# Altium integrated library Xilinx Spartan-3A.IntLib: 90 symbols (part 48 of 55)
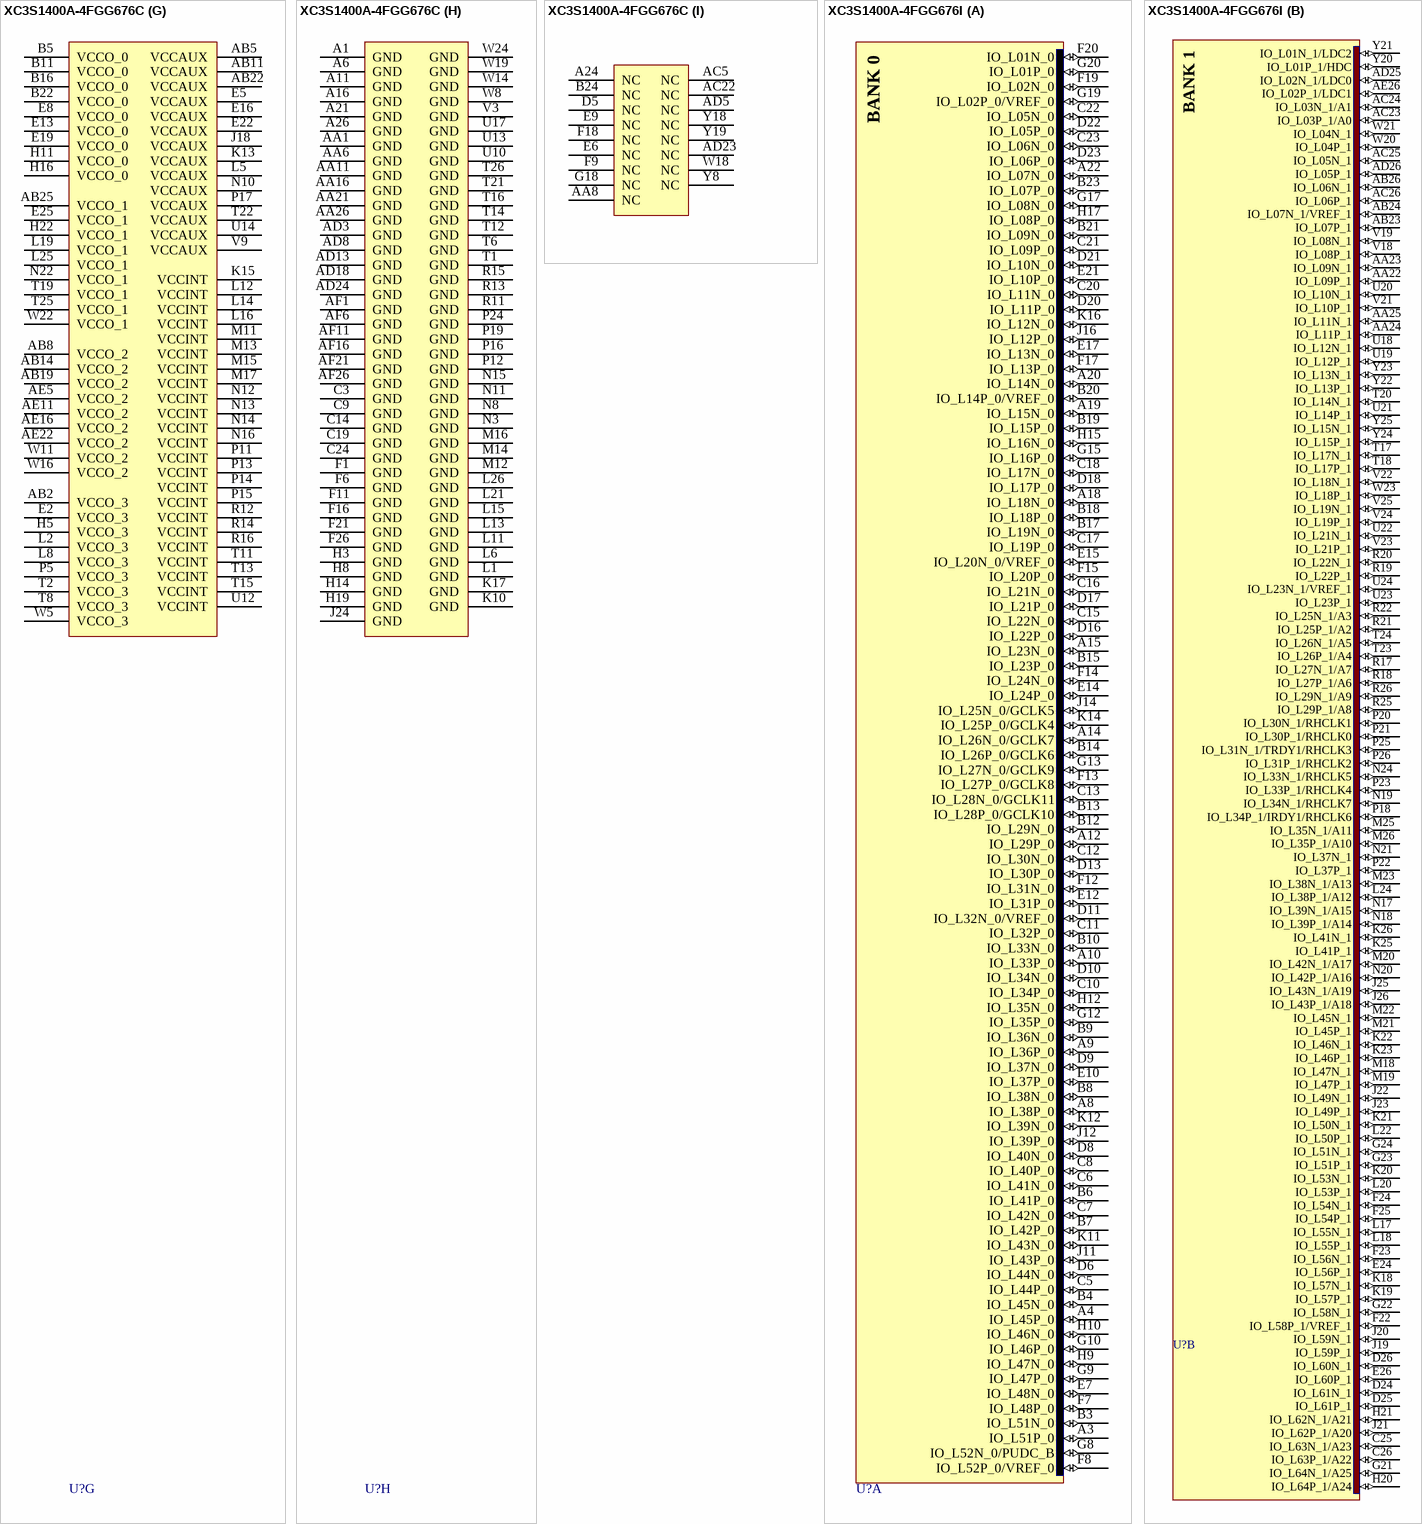
[diagram p143: symbols XC3S1400A-4FGG676C to XC3S1400A-4FGG676I]

## XC3S1400A-4FGG676C
designator U?
Spartan-3A I/O Optimized FPGA, 502 User I/Os, 676-Ball Pb-Free FBGA, Standard Performance, Commercial Grade; Published: 12-Dec-2006; LatestRevisionDate: 24-Apr-2009; LatestRevisionNote: Updated to datasheet version 1.8 March 2009; DatasheetVersion: ver1.8, Mar-2009; PackageVersion: ver1.2.1, Apr-2005; PackageReference: FGG676; Publisher: Altium Limited; PackageDescription: 676-Ball Fine Pitch Ball Grid Array (FGG676) - Pb-Free; Code_JEDEC: MS-034-AAL-1; Code_IPC: BGA100P26X26-676; ComponentLink1Description: Manufacturer Link; ComponentLink1URL: http://www.xilinx.com/products/spartan3a/; ComponentLink2Description: Datasheet; ComponentLink2URL: http://www.xilinx.com/support/documentation/data_sheets/ds529.pdf
footprint FGG676 (BGA, 676-Leads, Body 27x27mm, Pitch 1mm)
3D model XC3S1400A-FG676 (676-Ball Fine Pitch Ball Grid Array (FGG676) - Pb-Free)
signal-integrity model XC3S1400A_FGG676 (Spartan-3A)
part A pins: A3 IO_L51P_0 (io) "Unrestricted, general-purpose user-I/O pin.", A4 IO_L45P_0 (io) "Unrestricted, general-purpose user-I/O pin.", A8 IO_L38P_0 (io) "Unrestricted, general-purpose user-I/O pin.", A9 IO_L36P_0 (io) "Unrestricted, general-purpose user-I/O pin.", A10 IO_L33P_0 (io) "Unrestricted, general-purpose user-I/O pin.", A12 IO_L29P_0 (io) "Unrestricted, general-purpose user-I/O pin.", A14 IO_L26N_0/GCLK7 (io) "Either a user-I/O pin or a global clock input.", A15 IO_L23N_0 (io) "Unrestricted, general-purpose user-I/O pin.", A18 IO_L18N_0 (io) "Unrestricted, general-purpose user-I/O pin.", A19 IO_L15N_0 (io) "Unrestricted, general-purpose user-I/O pin.", A20 IO_L14N_0 (io) "Unrestricted, general-purpose user-I/O pin.", A22 IO_L07N_0 (io) "Unrestricted, general-purpose user-I/O pin.", B3 IO_L51N_0 (io) "Unrestricted, general-purpose user-I/O pin.", B4 IO_L45N_0 (io) "Unrestricted, general-purpose user-I/O pin.", B6 IO_L41P_0 (io) "Unrestricted, general-purpose user-I/O pin.", B7 IO_L42P_0 (io) "Unrestricted, general-purpose user-I/O pin.", B8 IO_L38N_0 (io) "Unrestricted, general-purpose user-I/O pin.", B9 IO_L36N_0 (io) "Unrestricted, general-purpose user-I/O pin.", B10 IO_L33N_0 (io) "Unrestricted, general-purpose user-I/O pin.", B12 IO_L29N_0 (io) "Unrestricted, general-purpose user-I/O pin.", B13 IO_L28P_0/GCLK10 (io) "Either a user-I/O pin or a global clock input.", B14 IO_L26P_0/GCLK6 (io) "Either a user-I/O pin or a global clock input.", B15 IO_L23P_0 (io) "Unrestricted, general-purpose user-I/O pin.", B17 IO_L19N_0 (io) "Unrestricted, general-purpose user-I/O pin.", B18 IO_L18P_0 (io) "Unrestricted, general-purpose user-I/O pin.", B19 IO_L15P_0 (io) "Unrestricted, general-purpose user-I/O pin.", B20 IO_L14P_0/VREF_0 (io) "Dual-purpose pin that is either a user-I/O pin or provides a reference voltage input.", B21 IO_L09N_0 (io) "Unrestricted, general-purpose user-I/O pin.", B23 IO_L07P_0 (io) "Unrestricted, general-purpose user-I/O pin.", C5 IO_L44P_0 (io) "Unrestricted, general-purpose user-I/O pin.", C6 IO_L41N_0 (io) "Unrestricted, general-purpose user-I/O pin.", C7 IO_L42N_0 (io) "Unrestricted, general-purpose user-I/O pin.", C8 IO_L40P_0 (io) "Unrestricted, general-purpose user-I/O pin.", C10 IO_L34P_0 (io) "Unrestricted, general-purpose user-I/O pin.", C11 IO_L32P_0 (io) "Unrestricted, general-purpose user-I/O pin.", C12 IO_L30N_0 (io) "Unrestricted, general-purpose user-I/O pin.", C13 IO_L28N_0/GCLK11 (io) "Either a user-I/O pin or a global clock input.", C15 IO_L22N_0 (io) "Unrestricted, general-purpose user-I/O pin.", C16 IO_L21N_0 (io) "Unrestricted, general-purpose user-I/O pin.", C17 IO_L19P_0 (io) "Unrestricted, general-purpose user-I/O pin.", C18 IO_L17N_0 (io) "Unrestricted, general-purpose user-I/O pin.", C20 IO_L11N_0 (io) "Unrestricted, general-purpose user-I/O pin.", C21 IO_L09P_0 (io) "Unrestricted, general-purpose user-I/O pin.", C22 IO_L05N_0 (io) "Unrestricted, general-purpose user-I/O pin.", C23 IO_L06N_0 (io) "Unrestricted, general-purpose user-I/O pin.", D6 IO_L44N_0 (io) "Unrestricted, general-purpose user-I/O pin.", D8 IO_L40N_0 (io) "Unrestricted, general-purpose user-I/O pin.", D9 IO_L37N_0 (io) "Unrestricted, general-purpose user-I/O pin.", D10 IO_L34N_0 (io) "Unrestricted, general-purpose user-I/O pin.", D11 IO_L32N_0/VREF_0 (io) "Dual-purpose pin that is either a user-I/O pin or provides a reference voltage input.", D13 IO_L30P_0 (io) "Unrestricted, general-purpose user-I/O pin.", D16 IO_L22P_0 (io) "Unrestricted, general-purpose user-I/O pin.", D17 IO_L21P_0 (io) "Unrestricted, general-purpose user-I/O pin.", D18 IO_L17P_0 (io) "Unrestricted, general-purpose user-I/O pin.", D20 IO_L11P_0 (io) "Unrestricted, general-purpose user-I/O pin.", D21 IO_L10N_0 (io) "Unrestricted, general-purpose user-I/O pin.", D22 IO_L05P_0 (io) "Unrestricted, general-purpose user-I/O pin.", D23 IO_L06P_0 (io) "Unrestricted, general-purpose user-I/O pin.", E7 IO_L48N_0 (io) "Unrestricted, general-purpose user-I/O pin.", E10 IO_L37P_0 (io) "Unrestricted, general-purpose user-I/O pin.", E12 IO_L31P_0 (io) "Unrestricted, general-purpose user-I/O pin.", E14 IO_L24P_0 (io) "Unrestricted, general-purpose user-I/O pin.", E15 IO_L20N_0/VREF_0 (io) "Dual-purpose pin that is either a user-I/O pin or provides a reference voltage input.", E17 IO_L13N_0 (io) "Unrestricted, general-purpose user-I/O pin.", E21 IO_L10P_0 (io) "Unrestricted, general-purpose user-I/O pin.", F7 IO_L48P_0 (io) "Unrestricted, general-purpose user-I/O pin.", F8 IO_L52P_0/VREF_0 (io) "Dual-purpose pin that is either a user-I/O pin or provides a reference voltage input.", F12 IO_L31N_0 (io) "Unrestricted, general-purpose user-I/O pin.", F13 IO_L27P_0/GCLK8 (io) "Either a user-I/O pin or a global clock input.", F14 IO_L24N_0 (io) "Unrestricted, general-purpose user-I/O pin.", F15 IO_L20P_0 (io) "Unrestricted, general-purpose user-I/O pin.", F17 IO_L13P_0 (io) "Unrestricted, general-purpose user-I/O pin.", F19 IO_L02N_0 (io) "Unrestricted, general-purpose user-I/O pin.", F20 IO_L01N_0 (io) "Unrestricted, general-purpose user-I/O pin.", G8 IO_L52N_0/PUDC_B (io) "Dual-purpose pin used in some configuration modes, and then usually available as a user-I/O.", G9 IO_L47P_0 (io) "Unrestricted, general-purpose user-I/O pin.", G10 IO_L46P_0 (io) "Unrestricted, general-purpose user-I/O pin.", G12 IO_L35P_0 (io) "Unrestricted, general-purpose user-I/O pin.", G13 IO_L27N_0/GCLK9 (io) "Either a user-I/O pin or a global clock input.", G15 IO_L16P_0 (io) "Unrestricted, general-purpose user-I/O pin.", G17 IO_L08N_0 (io) "Unrestricted, general-purpose user-I/O pin.", G19 IO_L02P_0/VREF_0 (io) "Dual-purpose pin that is either a user-I/O pin or provides a reference voltage input.", G20 IO_L01P_0 (io) "Unrestricted, general-purpose user-I/O pin.", H9 IO_L47N_0 (io) "Unrestricted, general-purpose user-I/O pin.", H10 IO_L46N_0 (io) "Unrestricted, general-purpose user-I/O pin.", H12 IO_L35N_0 (io) "Unrestricted, general-purpose user-I/O pin.", H15 IO_L16N_0 (io) "Unrestricted, general-purpose user-I/O pin.", H17 IO_L08P_0 (io) "Unrestricted, general-purpose user-I/O pin.", J11 IO_L43P_0 (io) "Unrestricted, general-purpose user-I/O pin.", J12 IO_L39P_0 (io) "Unrestricted, general-purpose user-I/O pin.", J14 IO_L25N_0/GCLK5 (io) "Either a user-I/O pin or a global clock input.", J16 IO_L12P_0 (io) "Unrestricted, general-purpose user-I/O pin.", K11 IO_L43N_0 (io) "Unrestricted, general-purpose user-I/O pin.", K12 IO_L39N_0 (io) "Unrestricted, general-purpose user-I/O pin.", K14 IO_L25P_0/GCLK4 (io) "Either a user-I/O pin or a global clock input.", K16 IO_L12N_0 (io) "Unrestricted, general-purpose user-I/O pin."
part B pins: AA22 IO_L09P_1 (io) "Unrestricted, general-purpose user-I/O pin.", AA23 IO_L09N_1 (io) "Unrestricted, general-purpose user-I/O pin.", AA24 IO_L11P_1 (io) "Unrestricted, general-purpose user-I/O pin.", AA25 IO_L11N_1 (io) "Unrestricted, general-purpose user-I/O pin.", AB23 IO_L07P_1 (io) "Unrestricted, general-purpose user-I/O pin.", AB24 IO_L07N_1/VREF_1 (io) "Dual-purpose pin that is either a user-I/O pin or provides a reference voltage input.", AB26 IO_L06N_1 (io) "Unrestricted, general-purpose user-I/O pin.", AC23 IO_L03P_1/A0 (io) "Dual-purpose pin used in some configuration modes, and then usually available as a user-I/O.", AC24 IO_L03N_1/A1 (io) "Dual-purpose pin used in some configuration modes, and then usually available as a user-I/O.", AC25 IO_L05N_1 (io) "Unrestricted, general-purpose user-I/O pin.", AC26 IO_L06P_1 (io) "Unrestricted, general-purpose user-I/O pin.", AD25 IO_L02N_1/LDC0 (io) "Dual-purpose pin used in some configuration modes, and then usually available as a user-I/O.", AD26 IO_L05P_1 (io) "Unrestricted, general-purpose user-I/O pin.", AE26 IO_L02P_1/LDC1 (io) "Dual-purpose pin used in some configuration modes, and then usually available as a user-I/O.", C25 IO_L63N_1/A23 (io) "Dual-purpose pin used in some configuration modes, and then usually available as a user-I/O.", C26 IO_L63P_1/A22 (io) "Dual-purpose pin used in some configuration modes, and then usually available as a user-I/O.", D24 IO_L61N_1 (io) "Unrestricted, general-purpose user-I/O pin.", D25 IO_L61P_1 (io) "Unrestricted, general-purpose user-I/O pin.", D26 IO_L60N_1 (io) "Unrestricted, general-purpose user-I/O pin.", E24 IO_L56P_1 (io) "Unrestricted, general-purpose user-I/O pin.", E26 IO_L60P_1 (io) "Unrestricted, general-purpose user-I/O pin.", F22 IO_L58P_1/VREF_1 (io) "Dual-purpose pin that is either a user-I/O pin or provides a reference voltage input.", F23 IO_L56N_1 (io) "Unrestricted, general-purpose user-I/O pin.", F24 IO_L54N_1 (io) "Unrestricted, general-purpose user-I/O pin.", F25 IO_L54P_1 (io) "Unrestricted, general-purpose user-I/O pin.", G21 IO_L64N_1/A25 (io) "Dual-purpose pin used in some configuration modes, and then usually available as a user-I/O.", G22 IO_L58N_1 (io) "Unrestricted, general-purpose user-I/O pin.", G23 IO_L51P_1 (io) "Unrestricted, general-purpose user-I/O pin.", G24 IO_L51N_1 (io) "Unrestricted, general-purpose user-I/O pin.", H20 IO_L64P_1/A24 (io) "Dual-purpose pin used in some configuration modes, and then usually available as a user-I/O.", H21 IO_L62N_1/A21 (io) "Dual-purpose pin used in some configuration modes, and then usually available as a user-I/O.", J19 IO_L59P_1 (io) "Unrestricted, general-purpose user-I/O pin.", J20 IO_L59N_1 (io) "Unrestricted, general-purpose user-I/O pin.", J21 IO_L62P_1/A20 (io) "Dual-purpose pin used in some configuration modes, and then usually available as a user-I/O.", J22 IO_L49N_1 (io) "Unrestricted, general-purpose user-I/O pin.", J23 IO_L49P_1 (io) "Unrestricted, general-purpose user-I/O pin.", J25 IO_L43N_1/A19 (io) "Dual-purpose pin used in some configuration modes, and then usually available as a user-I/O.", J26 IO_L43P_1/A18 (io) "Dual-purpose pin used in some configuration modes, and then usually available as a user-I/O.", K18 IO_L57N_1 (io) "Unrestricted, general-purpose user-I/O pin.", K19 IO_L57P_1 (io) "Unrestricted, general-purpose user-I/O pin.", K20 IO_L53N_1 (io) "Unrestricted, general-purpose user-I/O pin.", K21 IO_L50N_1 (io) "Unrestricted, general-purpose user-I/O pin.", K22 IO_L46N_1 (io) "Unrestricted, general-purpose user-I/O pin.", K23 IO_L46P_1 (io) "Unrestricted, general-purpose user-I/O pin.", K25 IO_L41P_1 (io) "Unrestricted, general-purpose user-I/O pin.", K26 IO_L41N_1 (io) "Unrestricted, general-purpose user-I/O pin.", L17 IO_L55N_1 (io) "Unrestricted, general-purpose user-I/O pin.", L18 IO_L55P_1 (io) "Unrestricted, general-purpose user-I/O pin.", L20 IO_L53P_1 (io) "Unrestricted, general-purpose user-I/O pin.", L22 IO_L50P_1 (io) "Unrestricted, general-purpose user-I/O pin.", L24 IO_L38P_1/A12 (io) "Dual-purpose pin used in some configuration modes, and then usually available as a user-I/O.", M18 IO_L47N_1 (io) "Unrestricted, general-purpose user-I/O pin.", M19 IO_L47P_1 (io) "Unrestricted, general-purpose user-I/O pin.", M20 IO_L42N_1/A17 (io) "Dual-purpose pin used in some configuration modes, and then usually available as a user-I/O.", M21 IO_L45P_1 (io) "Unrestricted, general-purpose user-I/O pin.", M22 IO_L45N_1 (io) "Unrestricted, general-purpose user-I/O pin.", M23 IO_L38N_1/A13 (io) "Dual-purpose pin used in some configuration modes, and then usually available as a user-I/O.", M25 IO_L35N_1/A11 (io) "Dual-purpose pin used in some configuration modes, and then usually available as a user-I/O.", M26 IO_L35P_1/A10 (io) "Dual-purpose pin used in some configuration modes, and then usually available as a user-I/O.", N17 IO_L39N_1/A15 (io) "Dual-purpose pin used in some configuration modes, and then usually available as a user-I/O.", N18 IO_L39P_1/A14 (io) "Dual-purpose pin used in some configuration modes, and then usually available as a user-I/O.", N19 IO_L34N_1/RHCLK7 (io) "Either a user-I/O pin or a global clock input for right half of device.", N20 IO_L42P_1/A16 (io) "Dual-purpose pin used in some configuration modes, and then usually available as a user-I/O.", N21 IO_L37N_1 (io) "Unrestricted, general-purpose user-I/O pin.", N24 IO_L33N_1/RHCLK5 (io) "Either a user-I/O pin or a global clock input for right half of device.", P18 IO_L34P_1/IRDY1/RHCLK6 (io) "Either a user-I/O pin or a global clock input for right half of device.", P20 IO_L30N_1/RHCLK1 (io) "Either a user-I/O pin or a global clock input for right half of device.", P21 IO_L30P_1/RHCLK0 (io) "Either a user-I/O pin or a global clock input for right half of device.", P22 IO_L37P_1 (io) "Unrestricted, general-purpose user-I/O pin.", P23 IO_L33P_1/RHCLK4 (io) "Either a user-I/O pin or a global clock input for right half of device.", P25 IO_L31N_1/TRDY1/RHCLK3 (io) "Either a user-I/O pin or a global clock input for right half of device.", P26 IO_L31P_1/RHCLK2 (io) "Either a user-I/O pin or a global clock input for right half of device.", R17 IO_L27N_1/A7 (io) "Dual-purpose pin used in some configuration modes, and then usually available as a user-I/O.", R18 IO_L27P_1/A6 (io) "Dual-purpose pin used in some configuration modes, and then usually available as a user-I/O.", R19 IO_L22P_1 (io) "Unrestricted, general-purpose user-I/O pin.", R20 IO_L22N_1 (io) "Unrestricted, general-purpose user-I/O pin.", R21 IO_L25P_1/A2 (io) "Dual-purpose pin used in some configuration modes, and then usually available as a user-I/O.", R22 IO_L25N_1/A3 (io) "Dual-purpose pin used in some configuration modes, and then usually available as a user-I/O.", R25 IO_L29P_1/A8 (io) "Dual-purpose pin used in some configuration modes, and then usually available as a user-I/O.", R26 IO_L29N_1/A9 (io) "Dual-purpose pin used in some configuration modes, and then usually available as a user-I/O.", T17 IO_L17N_1 (io) "Unrestricted, general-purpose user-I/O pin.", T18 IO_L17P_1 (io) "Unrestricted, general-purpose user-I/O pin.", T20 IO_L14N_1 (io) "Unrestricted, general-purpose user-I/O pin.", T23 IO_L26P_1/A4 (io) "Dual-purpose pin used in some configuration modes, and then usually available as a user-I/O.", T24 IO_L26N_1/A5 (io) "Dual-purpose pin used in some configuration modes, and then usually available as a user-I/O.", U18 IO_L12N_1 (io) "Unrestricted, general-purpose user-I/O pin.", U19 IO_L12P_1 (io) "Unrestricted, general-purpose user-I/O pin.", U20 IO_L10N_1 (io) "Unrestricted, general-purpose user-I/O pin.", U21 IO_L14P_1 (io) "Unrestricted, general-purpose user-I/O pin.", U22 IO_L21N_1 (io) "Unrestricted, general-purpose user-I/O pin.", U23 IO_L23P_1 (io) "Unrestricted, general-purpose user-I/O pin.", U24 IO_L23N_1/VREF_1 (io) "Dual-purpose pin that is either a user-I/O pin or provides a reference voltage input.", V18 IO_L08P_1 (io) "Unrestricted, general-purpose user-I/O pin.", V19 IO_L08N_1 (io) "Unrestricted, general-purpose user-I/O pin.", V21 IO_L10P_1 (io) "Unrestricted, general-purpose user-I/O pin.", V22 IO_L18N_1 (io) "Unrestricted, general-purpose user-I/O pin.", V23 IO_L21P_1 (io) "Unrestricted, general-purpose user-I/O pin.", V24 IO_L19P_1 (io) "Unrestricted, general-purpose user-I/O pin.", V25 IO_L19N_1 (io) "Unrestricted, general-purpose user-I/O pin.", W20 IO_L04P_1 (io) "Unrestricted, general-purpose user-I/O pin.", W21 IO_L04N_1 (io) "Unrestricted, general-purpose user-I/O pin.", W23 IO_L18P_1 (io) "Unrestricted, general-purpose user-I/O pin.", Y20 IO_L01P_1/HDC (io) "Dual-purpose pin used in some configuration modes, and then usually available as a user-I/O.", Y21 IO_L01N_1/LDC2 (io) "Dual-purpose pin used in some configuration modes, and then usually available as a user-I/O.", Y22 IO_L13P_1 (io) "Unrestricted, general-purpose user-I/O pin.", Y23 IO_L13N_1 (io) "Unrestricted, general-purpose user-I/O pin.", Y24 IO_L15P_1 (io) "Unrestricted, general-purpose user-I/O pin.", Y25 IO_L15N_1 (io) "Unrestricted, general-purpose user-I/O pin."
part C pins: AA7 IO_L02N_2/CSO_B (io) "Dual-purpose pin used in some configuration modes, and then usually available as a user-I/O.", AA10 IO_L12N_2 (io) "Unrestricted, general-purpose user-I/O pin.", AA12 IO_L17N_2/VS2 (io) "Dual-purpose pin used in some configuration modes, and then usually available as a user-I/O.", AA13 IO_L25P_2/GCLK12 (io) "Either a user-I/O pin or a global clock input.", AA14 IO_L27N_2/GCLK1 (io) "Either a user-I/O pin or a global clock input.", AA15 IO_L34P_2/INIT_B (io) "Dual-purpose pin used in some configuration modes, and then usually available as a user-I/O.", AA17 IO_L43P_2 (io) "Unrestricted, general-purpose user-I/O pin.", AA18 IO_L47N_2 (io) "Unrestricted, general-purpose user-I/O pin.", AB7 IO_L14N_2 (io) "Unrestricted, general-purpose user-I/O pin.", AB9 IO_L15P_2 (io) "Unrestricted, general-purpose user-I/O pin.", AB12 IO_L21P_2 (io) "Unrestricted, general-purpose user-I/O pin.", AB15 IO_L30N_2/MOSI/CSI_B (io) "Dual-purpose pin used in some configuration modes, and then usually available as a user-I/O.", AB16 IO_L38N_2 (io) "Unrestricted, general-purpose user-I/O pin.", AB18 IO_L47P_2 (io) "Unrestricted, general-purpose user-I/O pin.", AC4 IO_L01P_2/M1 (io) "Dual-purpose pin used in some configuration modes, and then usually available as a user-I/O.", AC6 IO_L08P_2 (io) "Unrestricted, general-purpose user-I/O pin.", AC8 IO_L14P_2 (io) "Unrestricted, general-purpose user-I/O pin.", AC9 IO_L15N_2 (io) "Unrestricted, general-purpose user-I/O pin.", AC11 IO_L23N_2 (io) "Unrestricted, general-purpose user-I/O pin.", AC12 IO_L21N_2 (io) "Unrestricted, general-purpose user-I/O pin.", AC14 IO_L29N_2 (io) "Unrestricted, general-purpose user-I/O pin.", AC15 IO_L30P_2 (io) "Unrestricted, general-purpose user-I/O pin.", AC16 IO_L38P_2 (io) "Unrestricted, general-purpose user-I/O pin.", AC19 IO_L40N_2 (io) "Unrestricted, general-purpose user-I/O pin.", AC20 IO_L41N_2 (io) "Unrestricted, general-purpose user-I/O pin.", AC21 IO_L45N_2 (io) "Unrestricted, general-purpose user-I/O pin.", AD4 IO_L01N_2/M0 (io) "Dual-purpose pin used in some configuration modes, and then usually available as a user-I/O.", AD6 IO_L08N_2 (io) "Unrestricted, general-purpose user-I/O pin.", AD7 IO_L11P_2 (io) "Unrestricted, general-purpose user-I/O pin.", AD11 IO_L23P_2 (io) "Unrestricted, general-purpose user-I/O pin.", AD14 IO_L29P_2 (io) "Unrestricted, general-purpose user-I/O pin.", AD15 IO_L32P_2/AWAKE (io) "Dual-Purpose pin. Used for the power-saving Suspend mode and user-I/O.", AD17 IO_L33N_2 (io) "Unrestricted, general-purpose user-I/O pin.", AD19 IO_L40P_2 (io) "Unrestricted, general-purpose user-I/O pin.", AD20 IO_L41P_2 (io) "Unrestricted, general-purpose user-I/O pin.", AD21 IO_L44N_2 (io) "Unrestricted, general-purpose user-I/O pin.", AD22 IO_L45P_2 (io) "Unrestricted, general-purpose user-I/O pin.", AE3 IO_L06P_2 (io) "Unrestricted, general-purpose user-I/O pin.", AE4 IO_L07P_2 (io) "Unrestricted, general-purpose user-I/O pin.", AE6 IO_L10N_2 (io) "Unrestricted, general-purpose user-I/O pin.", AE7 IO_L11N_2 (io) "Unrestricted, general-purpose user-I/O pin.", AE8 IO_L18P_2 (io) "Unrestricted, general-purpose user-I/O pin.", AE9 IO_L19P_2/VS1 (io) "Dual-purpose pin used in some configuration modes, and then usually available as a user-I/O.", AE10 IO_L22P_2/D7 (io) "Dual-purpose pin used in some configuration modes, and then usually available as a user-I/O.", AE12 IO_L24N_2/D4 (io) "Dual-purpose pin used in some configuration modes, and then usually available as a user-I/O.", AE13 IO_L26N_2/GCLK15 (io) "Either a user-I/O pin or a global clock input.", AE14 IO_L28N_2/GCLK3 (io) "Either a user-I/O pin or a global clock input.", AE15 IO_L32N_2/DOUT (io) "Dual-purpose pin used in some configuration modes, and then usually available as a user-I/O.", AE17 IO_L33P_2 (io) "Unrestricted, general-purpose user-I/O pin.", AE18 IO_L36N_2/D1 (io) "Dual-purpose pin used in some configuration modes, and then usually available as a user-I/O.", AE19 IO_L37N_2 (io) "Unrestricted, general-purpose user-I/O pin.", AE20 IO_L39N_2 (io) "Unrestricted, general-purpose user-I/O pin.", AE21 IO_L44P_2 (io) "Unrestricted, general-purpose user-I/O pin.", AE23 IO_L48N_2 (io) "Unrestricted, general-purpose user-I/O pin.", AE24 IO_L52N_2/CCLK (io) "Dual-purpose pin used in some configuration modes, and then usually available as a user-I/O.", AE25 IO_L51N_2 (io) "Unrestricted, general-purpose user-I/O pin.", AF3 IO_L06N_2 (io) "Unrestricted, general-purpose user-I/O pin.", AF4 IO_L07N_2 (io) "Unrestricted, general-purpose user-I/O pin.", AF5 IO_L10P_2 (io) "Unrestricted, general-purpose user-I/O pin.", AF8 IO_L18N_2 (io) "Unrestricted, general-purpose user-I/O pin.", AF9 IO_L19N_2/VS0 (io) "Dual-purpose pin used in some configuration modes, and then usually available as a user-I/O.", AF10 IO_L22N_2/D6 (io) "Dual-purpose pin used in some configuration modes, and then usually available as a user-I/O.", AF12 IO_L24P_2/D5 (io) "Dual-purpose pin used in some configuration modes, and then usually available as a user-I/O.", AF13 IO_L26P_2/GCLK14 (io) "Either a user-I/O pin or a global clock input.", AF14 IO_L28P_2/GCLK2 (io) "Either a user-I/O pin or a global clock input.", AF18 IO_L36P_2/D2 (io) "Dual-purpose pin used in some configuration modes, and then usually available as a user-I/O.", AF19 IO_L37P_2 (io) "Unrestricted, general-purpose user-I/O pin.", AF20 IO_L39P_2 (io) "Unrestricted, general-purpose user-I/O pin.", AF23 IO_L48P_2 (io) "Unrestricted, general-purpose user-I/O pin.", AF24 IO_L52P_2/D0/DIN/MISO (io) "Dual-purpose pin used in some configuration modes, and then usually available as a user-I/O.", AF25 IO_L51P_2 (io) "Unrestricted, general-purpose user-I/O pin.", U11 IO_L13N_2 (io) "Unrestricted, general-purpose user-I/O pin.", U15 IO_L35N_2 (io) "Unrestricted, general-purpose user-I/O pin.", U16 IO_L42N_2 (io) "Unrestricted, general-purpose user-I/O pin.", V10 IO_L09P_2 (io) "Unrestricted, general-purpose user-I/O pin.", V11 IO_L13P_2 (io) "Unrestricted, general-purpose user-I/O pin.", V12 IO_L16P_2 (io) "Unrestricted, general-purpose user-I/O pin.", V13 IO_L20P_2 (io) "Unrestricted, general-purpose user-I/O pin.", V14 IO_L31P_2 (io) "Unrestricted, general-purpose user-I/O pin.", V15 IO_L35P_2 (io) "Unrestricted, general-purpose user-I/O pin.", V16 IO_L42P_2 (io) "Unrestricted, general-purpose user-I/O pin.", V17 IO_L46N_2 (io) "Unrestricted, general-purpose user-I/O pin.", W9 IO_L05P_2 (io) "Unrestricted, general-purpose user-I/O pin.", W10 IO_L09N_2 (io) "Unrestricted, general-purpose user-I/O pin.", W12 IO_L16N_2 (io) "Unrestricted, general-purpose user-I/O pin.", W13 IO_L20N_2 (io) "Unrestricted, general-purpose user-I/O pin.", W15 IO_L31N_2 (io) "Unrestricted, general-purpose user-I/O pin.", W17 IO_L46P_2 (io) "Unrestricted, general-purpose user-I/O pin.", Y7 IO_L02P_2/M2 (io) "Dual-purpose pin used in some configuration modes, and then usually available as a user-I/O.", Y9 IO_L05N_2 (io) "Unrestricted, general-purpose user-I/O pin.", Y10 IO_L12P_2 (io) "Unrestricted, general-purpose user-I/O pin.", Y12 IO_L17P_2/RDWR_B (io) "Dual-purpose pin used in some configuration modes, and then usually available as a user-I/O.", Y13 IO_L25N_2/GCLK13 (io) "Either a user-I/O pin or a global clock input.", Y14 IO_L27P_2/GCLK0 (io) "Either a user-I/O pin or a global clock input.", Y15 IO_L34N_2/D3 (io) "Dual-purpose pin used in some configuration modes, and then usually available as a user-I/O.", Y17 IO_L43N_2 (io) "Unrestricted, general-purpose user-I/O pin."
part D pins: AA2 IO_L55P_3 (io) "Unrestricted, general-purpose user-I/O pin.", AA3 IO_L55N_3 (io) "Unrestricted, general-purpose user-I/O pin.", AB1 IO_L60P_3 (io) "Unrestricted, general-purpose user-I/O pin.", AC1 IO_L60N_3 (io) "Unrestricted, general-purpose user-I/O pin.", AC2 IO_L64P_3 (io) "Unrestricted, general-purpose user-I/O pin.", AC3 IO_L64N_3 (io) "Unrestricted, general-purpose user-I/O pin.", AD1 IO_L65P_3 (io) "Unrestricted, general-purpose user-I/O pin.", AD2 IO_L65N_3 (io) "Unrestricted, general-purpose user-I/O pin.", B1 IO_L02N_3 (io) "Unrestricted, general-purpose user-I/O pin.", B2 IO_L02P_3 (io) "Unrestricted, general-purpose user-I/O pin.", D3 IO_L06P_3 (io) "Unrestricted, general-purpose user-I/O pin.", E1 IO_L11P_3 (io) "Unrestricted, general-purpose user-I/O pin.", E3 IO_L07P_3 (io) "Unrestricted, general-purpose user-I/O pin.", E4 IO_L06N_3 (io) "Unrestricted, general-purpose user-I/O pin.", F2 IO_L11N_3 (io) "Unrestricted, general-purpose user-I/O pin.", F3 IO_L14N_3 (io) "Unrestricted, general-purpose user-I/O pin.", F4 IO_L07N_3 (io) "Unrestricted, general-purpose user-I/O pin.", F5 IO_L09P_3 (io) "Unrestricted, general-purpose user-I/O pin.", G3 IO_L14P_3 (io) "Unrestricted, general-purpose user-I/O pin.", G4 IO_L09N_3 (io) "Unrestricted, general-purpose user-I/O pin.", G6 IO_L03P_3 (io) "Unrestricted, general-purpose user-I/O pin.", H1 IO_L17N_3 (io) "Unrestricted, general-purpose user-I/O pin.", H2 IO_L17P_3 (io) "Unrestricted, general-purpose user-I/O pin.", H6 IO_L10N_3 (io) "Unrestricted, general-purpose user-I/O pin.", H7 IO_L03N_3 (io) "Unrestricted, general-purpose user-I/O pin.", J4 IO_L19N_3 (io) "Unrestricted, general-purpose user-I/O pin.", J5 IO_L19P_3 (io) "Unrestricted, general-purpose user-I/O pin.", J6 IO_L13N_3 (io) "Unrestricted, general-purpose user-I/O pin.", J7 IO_L10P_3 (io) "Unrestricted, general-purpose user-I/O pin.", J8 IO_L01P_3 (io) "Unrestricted, general-purpose user-I/O pin.", J9 IO_L01N_3 (io) "Unrestricted, general-purpose user-I/O pin.", K2 IO_L23N_3 (io) "Unrestricted, general-purpose user-I/O pin.", K3 IO_L23P_3 (io) "Unrestricted, general-purpose user-I/O pin.", K4 IO_L22N_3 (io) "Unrestricted, general-purpose user-I/O pin.", K5 IO_L22P_3 (io) "Unrestricted, general-purpose user-I/O pin.", K6 IO_L18P_3 (io) "Unrestricted, general-purpose user-I/O pin.", K7 IO_L13P_3 (io) "Unrestricted, general-purpose user-I/O pin.", K8 IO_L05N_3 (io) "Unrestricted, general-purpose user-I/O pin.", K9 IO_L05P_3 (io) "Unrestricted, general-purpose user-I/O pin.", L3 IO_L25N_3 (io) "Unrestricted, general-purpose user-I/O pin.", L4 IO_L25P_3 (io) "Unrestricted, general-purpose user-I/O pin.", L7 IO_L18N_3 (io) "Unrestricted, general-purpose user-I/O pin.", L9 IO_L15N_3 (io) "Unrestricted, general-purpose user-I/O pin.", L10 IO_L15P_3 (io) "Unrestricted, general-purpose user-I/O pin.", M1 IO_L29N_3/VREF_3 (io) "Dual-purpose pin that is either a user-I/O pin or provides a reference voltage input.", M2 IO_L29P_3 (io) "Unrestricted, general-purpose user-I/O pin.", M3 IO_L27N_3 (io) "Unrestricted, general-purpose user-I/O pin.", M4 IO_L27P_3 (io) "Unrestricted, general-purpose user-I/O pin.", M5 IO_L28P_3 (io) "Unrestricted, general-purpose user-I/O pin.", M6 IO_L28N_3 (io) "Unrestricted, general-purpose user-I/O pin.", M7 IO_L26N_3 (io) "Unrestricted, general-purpose user-I/O pin.", M8 IO_L26P_3 (io) "Unrestricted, general-purpose user-I/O pin.", M9 IO_L21N_3 (io) "Unrestricted, general-purpose user-I/O pin.", M10 IO_L21P_3 (io) "Unrestricted, general-purpose user-I/O pin.", N1 IO_L31P_3 (io) "Unrestricted, general-purpose user-I/O pin.", N2 IO_L31N_3 (io) "Unrestricted, general-purpose user-I/O pin.", N4 IO_L30N_3 (io) "Unrestricted, general-purpose user-I/O pin.", N5 IO_L30P_3 (io) "Unrestricted, general-purpose user-I/O pin.", N6 IO_L32P_3/LHCLK0 (io) "Either a user-I/O pin or a global clock input for left half of device.", N7 IO_L32N_3/LHCLK1 (io) "Either a user-I/O pin or a global clock input for left half of device.", N9 IO_L35P_3/TRDY2/LHCLK6 (io) "Either a user-I/O pin or a global clock input for left half of device.", P1 IO_L33P_3/LHCLK2 (io) "Either a user-I/O pin or a global clock input for left half of device.", P2 IO_L33N_3/IRDY2/LHCLK3 (io) "Either a user-I/O pin or a global clock input for left half of device.", P3 IO_L34N_3/LHCLK5 (io) "Either a user-I/O pin or a global clock input for left half of device.", P4 IO_L34P_3/LHCLK4 (io) "Either a user-I/O pin or a global clock input for left half of device.", P6 IO_L39N_3 (io) "Unrestricted, general-purpose user-I/O pin.", P7 IO_L39P_3 (io) "Unrestricted, general-purpose user-I/O pin.", P8 IO_L41P_3 (io) "Unrestricted, general-purpose user-I/O pin.", P9 IO_L41N_3 (io) "Unrestricted, general-purpose user-I/O pin.", P10 IO_L35N_3/LHCLK7 (io) "Either a user-I/O pin or a global clock input for left half of device.", R1 IO_L36P_3/VREF_3 (io) "Dual-purpose pin that is either a user-I/O pin or provides a reference voltage input.", R2 IO_L36N_3 (io) "Unrestricted, general-purpose user-I/O pin.", R3 IO_L37P_3 (io) "Unrestricted, general-purpose user-I/O pin.", R4 IO_L37N_3 (io) "Unrestricted, general-purpose user-I/O pin.", R5 IO_L40P_3 (io) "Unrestricted, general-purpose user-I/O pin.", R6 IO_L40N_3 (io) "Unrestricted, general-purpose user-I/O pin.", R7 IO_L45N_3 (io) "Unrestricted, general-purpose user-I/O pin.", R8 IO_L45P_3 (io) "Unrestricted, general-purpose user-I/O pin.", R9 IO_L43N_3 (io) "Unrestricted, general-purpose user-I/O pin.", R10 IO_L43P_3/VREF_3 (io) "Dual-purpose pin that is either a user-I/O pin or provides a reference voltage input.", T3 IO_L38P_3 (io) "Unrestricted, general-purpose user-I/O pin.", T4 IO_L38N_3 (io) "Unrestricted, general-purpose user-I/O pin.", T5 IO_L42P_3 (io) "Unrestricted, general-purpose user-I/O pin.", T7 IO_L51P_3 (io) "Unrestricted, general-purpose user-I/O pin.", T9 IO_L48N_3 (io) "Unrestricted, general-purpose user-I/O pin.", T10 IO_L48P_3 (io) "Unrestricted, general-purpose user-I/O pin.", U1 IO_L44P_3 (io) "Unrestricted, general-purpose user-I/O pin.", U2 IO_L44N_3 (io) "Unrestricted, general-purpose user-I/O pin.", U4 IO_L42N_3 (io) "Unrestricted, general-purpose user-I/O pin.", U5 IO_L49P_3 (io) "Unrestricted, general-purpose user-I/O pin.", U6 IO_L51N_3 (io) "Unrestricted, general-purpose user-I/O pin.", U7 IO_L56P_3 (io) "Unrestricted, general-purpose user-I/O pin.", U8 IO_L56N_3 (io) "Unrestricted, general-purpose user-I/O pin.", U9 IO_L61P_3 (io) "Unrestricted, general-purpose user-I/O pin.", V1 IO_L47P_3 (io) "Unrestricted, general-purpose user-I/O pin.", V2 IO_L47N_3 (io) "Unrestricted, general-purpose user-I/O pin.", V5 IO_L49N_3 (io) "Unrestricted, general-purpose user-I/O pin.", V6 IO_L59N_3 (io) "Unrestricted, general-purpose user-I/O pin.", V7 IO_L59P_3 (io) "Unrestricted, general-purpose user-I/O pin.", V8 IO_L61N_3 (io) "Unrestricted, general-purpose user-I/O pin.", W3 IO_L52P_3 (io) "Unrestricted, general-purpose user-I/O pin.", W4 IO_L52N_3 (io) "Unrestricted, general-purpose user-I/O pin.", W6 IO_L63N_3 (io) "Unrestricted, general-purpose user-I/O pin.", W7 IO_L63P_3 (io) "Unrestricted, general-purpose user-I/O pin.", Y1 IO_L53P_3 (io) "Unrestricted, general-purpose user-I/O pin.", Y2 IO_L53N_3 (io) "Unrestricted, general-purpose user-I/O pin.", Y5 IO_L57P_3 (io) "Unrestricted, general-purpose user-I/O pin.", Y6 IO_L57N_3 (io) "Unrestricted, general-purpose user-I/O pin."
part E pins: A5 IP_0 (in) "Unrestricted, general-purpose input-only pin.", A7 IP_0 (in) "Unrestricted, general-purpose input-only pin.", A13 IP_0 (in) "Unrestricted, general-purpose input-only pin.", A17 IP_0 (in) "Unrestricted, general-purpose input-only pin.", A23 IP_0 (in) "Unrestricted, general-purpose input-only pin.", AA4 IP_L58P_3 (in) "Unrestricted, general-purpose input-only pin.", AA5 IP_L58N_3/VREF_3 (in) "Dual-purpose pin that is either a Input-only pin, or provides a reference voltage input.", AA9 IP_2/VREF_2 (in) "Dual-purpose pin that is either a Input-only pin, or provides a reference voltage input.", AA19 IP_2 (in) "Unrestricted, general-purpose input-only pin.", AA20 IP_2/VREF_2 (in) "Dual-purpose pin that is either a Input-only pin, or provides a reference voltage input.", AB3 IP_L62P_3 (in) "Unrestricted, general-purpose input-only pin.", AB4 IP_L62N_3 (in) "Unrestricted, general-purpose input-only pin.", AB6 IP_2/VREF_2 (in) "Dual-purpose pin that is either a Input-only pin, or provides a reference voltage input.", AB10 IP_2/VREF_2 (in) "Dual-purpose pin that is either a Input-only pin, or provides a reference voltage input.", AB13 IP_2 (in) "Unrestricted, general-purpose input-only pin.", AB17 IP_2 (in) "Unrestricted, general-purpose input-only pin.", AB20 IP_2 (in) "Unrestricted, general-purpose input-only pin.", AC7 IP_2 (in) "Unrestricted, general-purpose input-only pin.", AC10 IP_2/VREF_2 (in) "Dual-purpose pin that is either a Input-only pin, or provides a reference voltage input.", AC13 IP_2 (in) "Unrestricted, general-purpose input-only pin.", AC17 IP_2 (in) "Unrestricted, general-purpose input-only pin.", AC18 IP_2 (in) "Unrestricted, general-purpose input-only pin.", AD9 IP_2 (in) "Unrestricted, general-purpose input-only pin.", AD10 IP_2 (in) "Unrestricted, general-purpose input-only pin.", AD12 IP_2/VREF_2 (in) "Dual-purpose pin that is either a Input-only pin, or provides a reference voltage input.", AD16 IP_2 (in) "Unrestricted, general-purpose input-only pin.", AE1 IP_L66P_3 (in) "Unrestricted, general-purpose input-only pin.", AE2 IP_L66N_3/VREF_3 (in) "Dual-purpose pin that is either a Input-only pin, or provides a reference voltage input.", AF2 IP_2 (in) "Unrestricted, general-purpose input-only pin.", AF7 IP_2 (in) "Unrestricted, general-purpose input-only pin.", AF15 IP_2/VREF_2 (in) "Dual-purpose pin that is either a Input-only pin, or provides a reference voltage input.", AF17 IP_2/VREF_2 (in) "Dual-purpose pin that is either a Input-only pin, or provides a reference voltage input.", AF22 IP_2/VREF_2 (in) "Dual-purpose pin that is either a Input-only pin, or provides a reference voltage input.", B25 IP_L65N_1 (in) "Unrestricted, general-purpose input-only pin.", B26 IP_L65P_1/VREF_1 (in) "Dual-purpose pin that is either a Input-only pin, or provides a reference voltage input.", C1 IP_L04N_3/VREF_3 (in) "Dual-purpose pin that is either a Input-only pin, or provides a reference voltage input.", C2 IP_L04P_3 (in) "Unrestricted, general-purpose input-only pin.", C4 IP_0 (in) "Unrestricted, general-purpose input-only pin.", D1 IP_L08N_3 (in) "Unrestricted, general-purpose input-only pin.", D2 IP_L08P_3 (in) "Unrestricted, general-purpose input-only pin.", D7 IP_0/VREF_0 (in) "Dual-purpose pin that is either a Input-only pin, or provides a reference voltage input.", D12 IP_0 (in) "Unrestricted, general-purpose input-only pin.", D14 IP_0/VREF_0 (in) "Dual-purpose pin that is either a Input-only pin, or provides a reference voltage input.", D15 IP_0 (in) "Unrestricted, general-purpose input-only pin.", D19 IP_0 (in) "Unrestricted, general-purpose input-only pin.", E11 IP_0 (in) "Unrestricted, general-purpose input-only pin.", E18 IP_0 (in) "Unrestricted, general-purpose input-only pin.", E20 IP_0 (in) "Unrestricted, general-purpose input-only pin.", F10 IP_0 (in) "Unrestricted, general-purpose input-only pin.", G1 IP_L16N_3 (in) "Unrestricted, general-purpose input-only pin.", G2 IP_L16P_3 (in) "Unrestricted, general-purpose input-only pin.", G5 IP_L12P_3 (in) "Unrestricted, general-purpose input-only pin.", G11 IP_0/VREF_0 (in) "Dual-purpose pin that is either a Input-only pin, or provides a reference voltage input.", G14 IP_0 (in) "Unrestricted, general-purpose input-only pin.", G16 IP_0 (in) "Unrestricted, general-purpose input-only pin.", G25 IP_L52N_1/VREF_1 (in) "Dual-purpose pin that is either a Input-only pin, or provides a reference voltage input.", G26 IP_L52P_1 (in) "Unrestricted, general-purpose input-only pin.", H4 IP_L12N_3/VREF_3 (in) "Dual-purpose pin that is either a Input-only pin, or provides a reference voltage input.", H13 IP_0 (in) "Unrestricted, general-purpose input-only pin.", H18 IP_0 (in) "Unrestricted, general-purpose input-only pin.", H23 IP_L48P_1 (in) "Unrestricted, general-purpose input-only pin.", H24 IP_L48N_1 (in) "Unrestricted, general-purpose input-only pin.", H25 IP_L44N_1 (in) "Unrestricted, general-purpose input-only pin.", H26 IP_L44P_1/VREF_1 (in) "Dual-purpose pin that is either a Input-only pin, or provides a reference voltage input.", J1 IP_L24P_3 (in) "Unrestricted, general-purpose input-only pin.", J2 IP_L20N_3/VREF_3 (in) "Dual-purpose pin that is either a Input-only pin, or provides a reference voltage input.", J3 IP_L20P_3 (in) "Unrestricted, general-purpose input-only pin.", J10 IP_0 (in) "Unrestricted, general-purpose input-only pin.", J13 IP_0 (in) "Unrestricted, general-purpose input-only pin.", J15 IP_0 (in) "Unrestricted, general-purpose input-only pin.", J17 IP_0/VREF_0 (in) "Dual-purpose pin that is either a Input-only pin, or provides a reference voltage input.", K1 IP_L24N_3 (in) "Unrestricted, general-purpose input-only pin.", K24 IP_L40P_1 (in) "Unrestricted, general-purpose input-only pin.", L23 IP_L40N_1 (in) "Unrestricted, general-purpose input-only pin.", M24 IP_L36P_1/VREF_1 (in) "Dual-purpose pin that is either a Input-only pin, or provides a reference voltage input.", N23 IP_L36N_1 (in) "Unrestricted, general-purpose input-only pin.", N25 IP_L32N_1 (in) "Unrestricted, general-purpose input-only pin.", N26 IP_L32P_1 (in) "Unrestricted, general-purpose input-only pin.", R23 IP_L28P_1/VREF_1 (in) "Dual-purpose pin that is either a Input-only pin, or provides a reference voltage input.", R24 IP_L28N_1 (in) "Unrestricted, general-purpose input-only pin.", U3 IP_L46P_3 (in) "Unrestricted, general-purpose input-only pin.", U25 IP_L24P_1 (in) "Unrestricted, general-purpose input-only pin.", U26 IP_L24N_1/VREF_1 (in) "Dual-purpose pin that is either a Input-only pin, or provides a reference voltage input.", V4 IP_L46N_3 (in) "Unrestricted, general-purpose input-only pin.", V26 IP_L20N_1/VREF_1 (in) "Dual-purpose pin that is either a Input-only pin, or provides a reference voltage input.", W1 IP_L50P_3 (in) "Unrestricted, general-purpose input-only pin.", W2 IP_L50N_3/VREF_3 (in) "Dual-purpose pin that is either a Input-only pin, or provides a reference voltage input.", W25 IP_L16P_1 (in) "Unrestricted, general-purpose input-only pin.", W26 IP_L20P_1 (in) "Unrestricted, general-purpose input-only pin.", Y3 IP_L54P_3 (in) "Unrestricted, general-purpose input-only pin.", Y4 IP_L54N_3 (in) "Unrestricted, general-purpose input-only pin.", Y11 IP_2 (in) "Unrestricted, general-purpose input-only pin.", Y16 IP_2/VREF_2 (in) "Dual-purpose pin that is either a Input-only pin, or provides a reference voltage input.", Y26 IP_L16N_1 (in) "Unrestricted, general-purpose input-only pin."
part F pins: A2 PROG_B (in) "Dedicated configuration pin.", A25 TCK (in) "Dedicated JTAG pin.", AB21 DONE (io) "Dedicated configuration pin.", D4 TMS (in) "Dedicated JTAG pin.", E23 TDO (out) "Dedicated JTAG pin.", G7 TDI (in) "Dedicated JTAG pin.", V20 SUSPEND (in) "Dedicated pin for the power-saving Suspend mode."
part G pins: AB2 VCCO_3 (power) "Supplies power to the output buffers within the I/O bank.", AB5 VCCAUX (power) "Dedicated auxiliary power supply pin.", AB8 VCCO_2 (power) "Supplies power to the output buffers within the I/O bank.", AB11 VCCAUX (power) "Dedicated auxiliary power supply pin.", AB14 VCCO_2 (power) "Supplies power to the output buffers within the I/O bank.", AB19 VCCO_2 (power) "Supplies power to the output buffers within the I/O bank.", AB22 VCCAUX (power) "Dedicated auxiliary power supply pin.", AB25 VCCO_1 (power) "Supplies power to the output buffers within the I/O bank.", AE5 VCCO_2 (power) "Supplies power to the output buffers within the I/O bank.", AE11 VCCO_2 (power) "Supplies power to the output buffers within the I/O bank.", AE16 VCCO_2 (power) "Supplies power to the output buffers within the I/O bank.", AE22 VCCO_2 (power) "Supplies power to the output buffers within the I/O bank.", B5 VCCO_0 (power) "Supplies power to the output buffers within the I/O bank.", B11 VCCO_0 (power) "Supplies power to the output buffers within the I/O bank.", B16 VCCO_0 (power) "Supplies power to the output buffers within the I/O bank.", B22 VCCO_0 (power) "Supplies power to the output buffers within the I/O bank.", E2 VCCO_3 (power) "Supplies power to the output buffers within the I/O bank.", E5 VCCAUX (power) "Dedicated auxiliary power supply pin.", E8 VCCO_0 (power) "Supplies power to the output buffers within the I/O bank.", E13 VCCO_0 (power) "Supplies power to the output buffers within the I/O bank.", E16 VCCAUX (power) "Dedicated auxiliary power supply pin.", E19 VCCO_0 (power) "Supplies power to the output buffers within the I/O bank.", E22 VCCAUX (power) "Dedicated auxiliary power supply pin.", E25 VCCO_1 (power) "Supplies power to the output buffers within the I/O bank.", H5 VCCO_3 (power) "Supplies power to the output buffers within the I/O bank.", H11 VCCO_0 (power) "Supplies power to the output buffers within the I/O bank.", H16 VCCO_0 (power) "Supplies power to the output buffers within the I/O bank.", H22 VCCO_1 (power) "Supplies power to the output buffers within the I/O bank.", J18 VCCAUX (power) "Dedicated auxiliary power supply pin.", K13 VCCAUX (power) "Dedicated auxiliary power supply pin.", K15 VCCINT (power) "Dedicated internal core logic power supply pin.", L2 VCCO_3 (power) "Supplies power to the output buffers within the I/O bank.", L5 VCCAUX (power) "Dedicated auxiliary power supply pin.", L8 VCCO_3 (power) "Supplies power to the output buffers within the I/O bank.", L12 VCCINT (power) "Dedicated internal core logic power supply pin.", L14 VCCINT (power) "Dedicated internal core logic power supply pin.", L16 VCCINT (power) "Dedicated internal core logic power supply pin.", L19 VCCO_1 (power) "Supplies power to the output buffers within the I/O bank.", L25 VCCO_1 (power) "Supplies power to the output buffers within the I/O bank.", M11 VCCINT (power) "Dedicated internal core logic power supply pin.", M13 VCCINT (power) "Dedicated internal core logic power supply pin.", M15 VCCINT (power) "Dedicated internal core logic power supply pin.", M17 VCCINT (power) "Dedicated internal core logic power supply pin.", N10 VCCAUX (power) "Dedicated auxiliary power supply pin.", N12 VCCINT (power) "Dedicated internal core logic power supply pin.", N13 VCCINT (power) "Dedicated internal core logic power supply pin.", N14 VCCINT (power) "Dedicated internal core logic power supply pin.", N16 VCCINT (power) "Dedicated internal core logic power supply pin.", N22 VCCO_1 (power) "Supplies power to the output buffers within the I/O bank.", P5 VCCO_3 (power) "Supplies power to the output buffers within the I/O bank.", P11 VCCINT (power) "Dedicated internal core logic power supply pin.", P13 VCCINT (power) "Dedicated internal core logic power supply pin.", P14 VCCINT (power) "Dedicated internal core logic power supply pin.", P15 VCCINT (power) "Dedicated internal core logic power supply pin.", P17 VCCAUX (power) "Dedicated auxiliary power supply pin.", R12 VCCINT (power) "Dedicated internal core logic power supply pin.", R14 VCCINT (power) "Dedicated internal core logic power supply pin.", R16 VCCINT (power) "Dedicated internal core logic power supply pin.", T2 VCCO_3 (power) "Supplies power to the output buffers within the I/O bank.", T8 VCCO_3 (power) "Supplies power to the output buffers within the I/O bank.", T11 VCCINT (power) "Dedicated internal core logic power supply pin.", T13 VCCINT (power) "Dedicated internal core logic power supply pin.", T15 VCCINT (power) "Dedicated internal core logic power supply pin.", T19 VCCO_1 (power) "Supplies power to the output buffers within the I/O bank.", T22 VCCAUX (power) "Dedicated auxiliary power supply pin.", T25 VCCO_1 (power) "Supplies power to the output buffers within the I/O bank.", U12 VCCINT (power) "Dedicated internal core logic power supply pin.", U14 VCCAUX (power) "Dedicated auxiliary power supply pin.", V9 VCCAUX (power) "Dedicated auxiliary power supply pin.", W5 VCCO_3 (power) "Supplies power to the output buffers within the I/O bank.", W11 VCCO_2 (power) "Supplies power to the output buffers within the I/O bank.", W16 VCCO_2 (power) "Supplies power to the output buffers within the I/O bank.", W22 VCCO_1 (power) "Supplies power to the output buffers within the I/O bank."
part H pins: A1 GND (power) "Dedicated ground pin.", A6 GND (power) "Dedicated ground pin.", A11 GND (power) "Dedicated ground pin.", A16 GND (power) "Dedicated ground pin.", A21 GND (power) "Dedicated ground pin.", A26 GND (power) "Dedicated ground pin.", AA1 GND (power) "Dedicated ground pin.", AA6 GND (power) "Dedicated ground pin.", AA11 GND (power) "Dedicated ground pin.", AA16 GND (power) "Dedicated ground pin.", AA21 GND (power) "Dedicated ground pin.", AA26 GND (power) "Dedicated ground pin.", AD3 GND (power) "Dedicated ground pin.", AD8 GND (power) "Dedicated ground pin.", AD13 GND (power) "Dedicated ground pin.", AD18 GND (power) "Dedicated ground pin.", AD24 GND (power) "Dedicated ground pin.", AF1 GND (power) "Dedicated ground pin.", AF6 GND (power) "Dedicated ground pin.", AF11 GND (power) "Dedicated ground pin.", AF16 GND (power) "Dedicated ground pin.", AF21 GND (power) "Dedicated ground pin.", AF26 GND (power) "Dedicated ground pin.", C3 GND (power) "Dedicated ground pin.", C9 GND (power) "Dedicated ground pin.", C14 GND (power) "Dedicated ground pin.", C19 GND (power) "Dedicated ground pin.", C24 GND (power) "Dedicated ground pin.", F1 GND (power) "Dedicated ground pin.", F6 GND (power) "Dedicated ground pin.", F11 GND (power) "Dedicated ground pin.", F16 GND (power) "Dedicated ground pin.", F21 GND (power) "Dedicated ground pin.", F26 GND (power) "Dedicated ground pin.", H3 GND (power) "Dedicated ground pin.", H8 GND (power) "Dedicated ground pin.", H14 GND (power) "Dedicated ground pin.", H19 GND (power) "Dedicated ground pin.", J24 GND (power) "Dedicated ground pin.", K10 GND (power) "Dedicated ground pin.", K17 GND (power) "Dedicated ground pin.", L1 GND (power) "Dedicated ground pin.", L6 GND (power) "Dedicated ground pin.", L11 GND (power) "Dedicated ground pin.", L13 GND (power) "Dedicated ground pin.", L15 GND (power) "Dedicated ground pin.", L21 GND (power) "Dedicated ground pin.", L26 GND (power) "Dedicated ground pin.", M12 GND (power) "Dedicated ground pin.", M14 GND (power) "Dedicated ground pin.", M16 GND (power) "Dedicated ground pin.", N3 GND (power) "Dedicated ground pin.", N8 GND (power) "Dedicated ground pin.", N11 GND (power) "Dedicated ground pin.", N15 GND (power) "Dedicated ground pin.", P12 GND (power) "Dedicated ground pin.", P16 GND (power) "Dedicated ground pin.", P19 GND (power) "Dedicated ground pin.", P24 GND (power) "Dedicated ground pin.", R11 GND (power) "Dedicated ground pin.", R13 GND (power) "Dedicated ground pin.", R15 GND (power) "Dedicated ground pin.", T1 GND (power) "Dedicated ground pin.", T6 GND (power) "Dedicated ground pin.", T12 GND (power) "Dedicated ground pin.", T14 GND (power) "Dedicated ground pin.", T16 GND (power) "Dedicated ground pin.", T21 GND (power) "Dedicated ground pin.", T26 GND (power) "Dedicated ground pin.", U10 GND (power) "Dedicated ground pin.", U13 GND (power) "Dedicated ground pin.", U17 GND (power) "Dedicated ground pin.", V3 GND (power) "Dedicated ground pin.", W8 GND (power) "Dedicated ground pin.", W14 GND (power) "Dedicated ground pin.", W19 GND (power) "Dedicated ground pin.", W24 GND (power) "Dedicated ground pin."
part I pins: A24 NC "Not Connected", AA8 NC "Not Connected", AC5 NC "Not Connected", AC22 NC "Not Connected", AD5 NC "Not Connected", AD23 NC "Not Connected", B24 NC "Not Connected", D5 NC "Not Connected", E6 NC "Not Connected", E9 NC "Not Connected", F9 NC "Not Connected", F18 NC "Not Connected", G18 NC "Not Connected", W18 NC "Not Connected", Y8 NC "Not Connected", Y18 NC "Not Connected", Y19 NC "Not Connected"
part A text: BANK 0
part B text: BANK 1
part C text: BANK 2
part D text: BANK 3

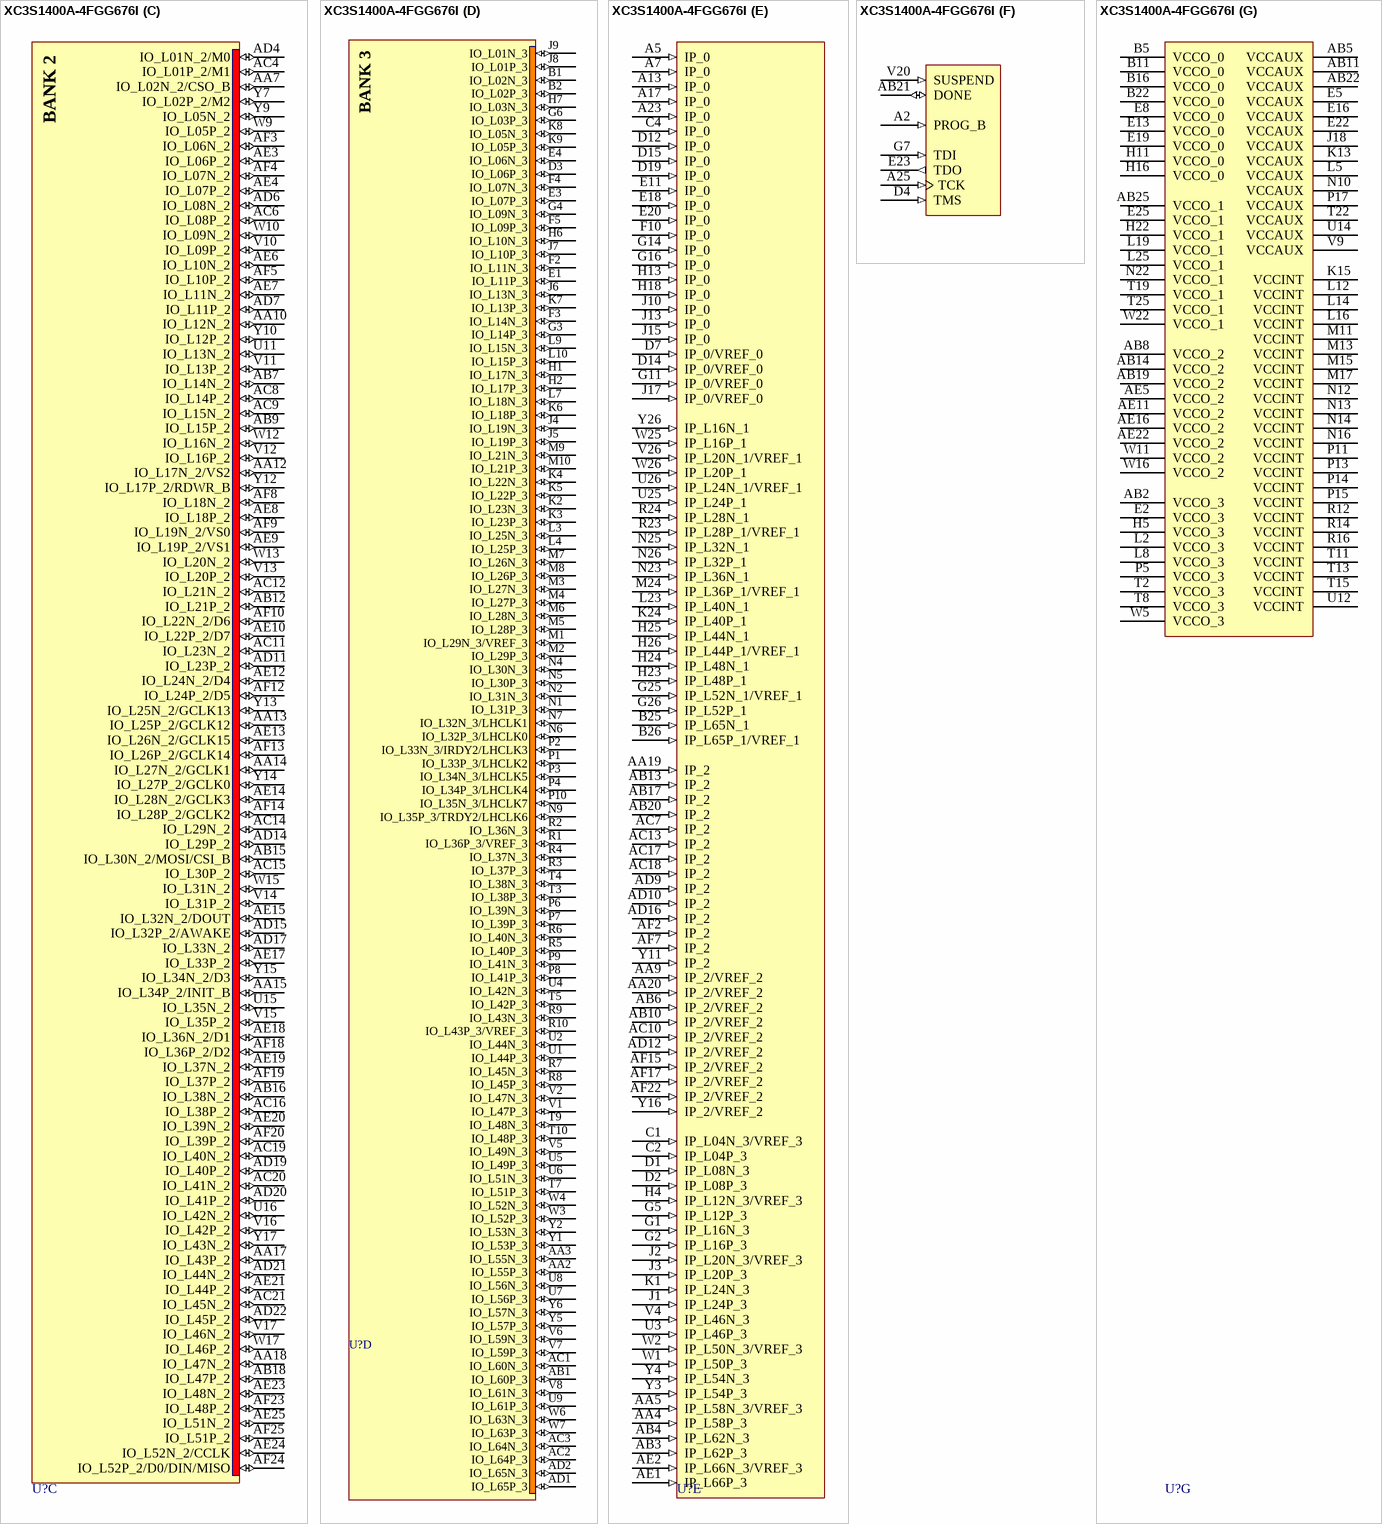
[diagram p85: symbol XC3S1400A-4FGG676I]

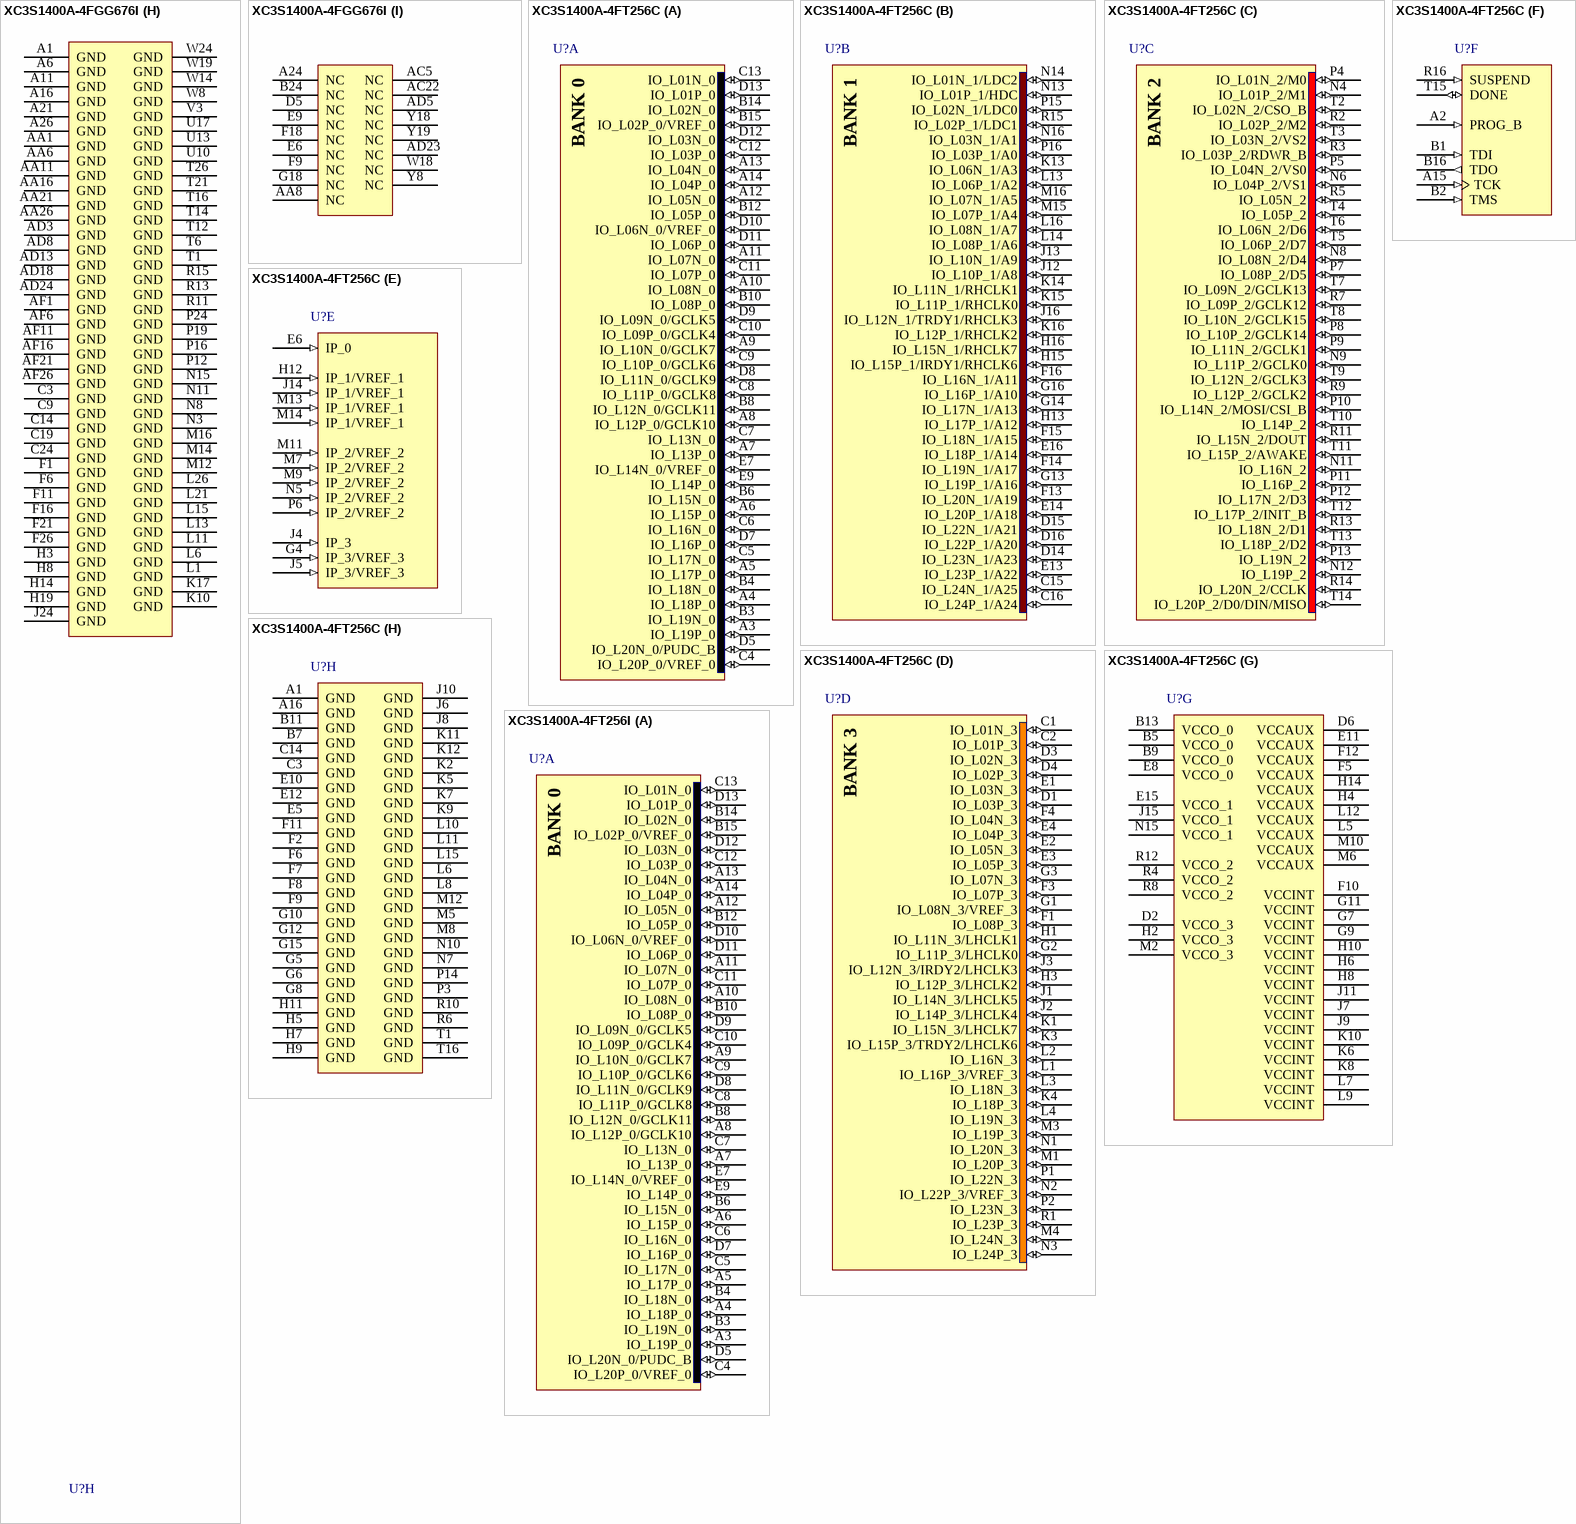
[diagram p86: symbols XC3S1400A-4FGG676I to XC3S1400A-4FT256I]